# Altium schematic symbol library ULN2003A.SchLib: 1 symbol
Pins are listed as number, name and electrical type; pins without a type are passive.

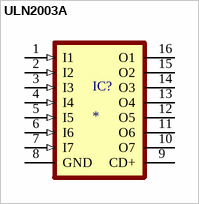
[diagram p0: symbol ULN2003A]

## ULN2003A
designator IC?
<b>DRIVER ARRAY</b>; MP: ULN2003A; MF: {'manufacturer': u'STMicroelectronics'}; Package: None; Price: None; Value: *; Availability: Unavailable
footprint DIL16
pins: 1 I1 (in), 2 I2 (in), 3 I3 (in), 4 I4 (in), 5 I5 (in), 6 I6 (in), 7 I7 (in), 8 GND (power), 9 CD+, 10 O7 (oc), 11 O6 (oc), 12 O5 (oc), 13 O4 (oc), 14 O3 (oc), 15 O2 (oc), 16 O1 (oc)